# Altium schematic symbol library RTC6705.SchLib: 18 symbols
Pins are listed as number, name and electrical type; pins without a type are passive.

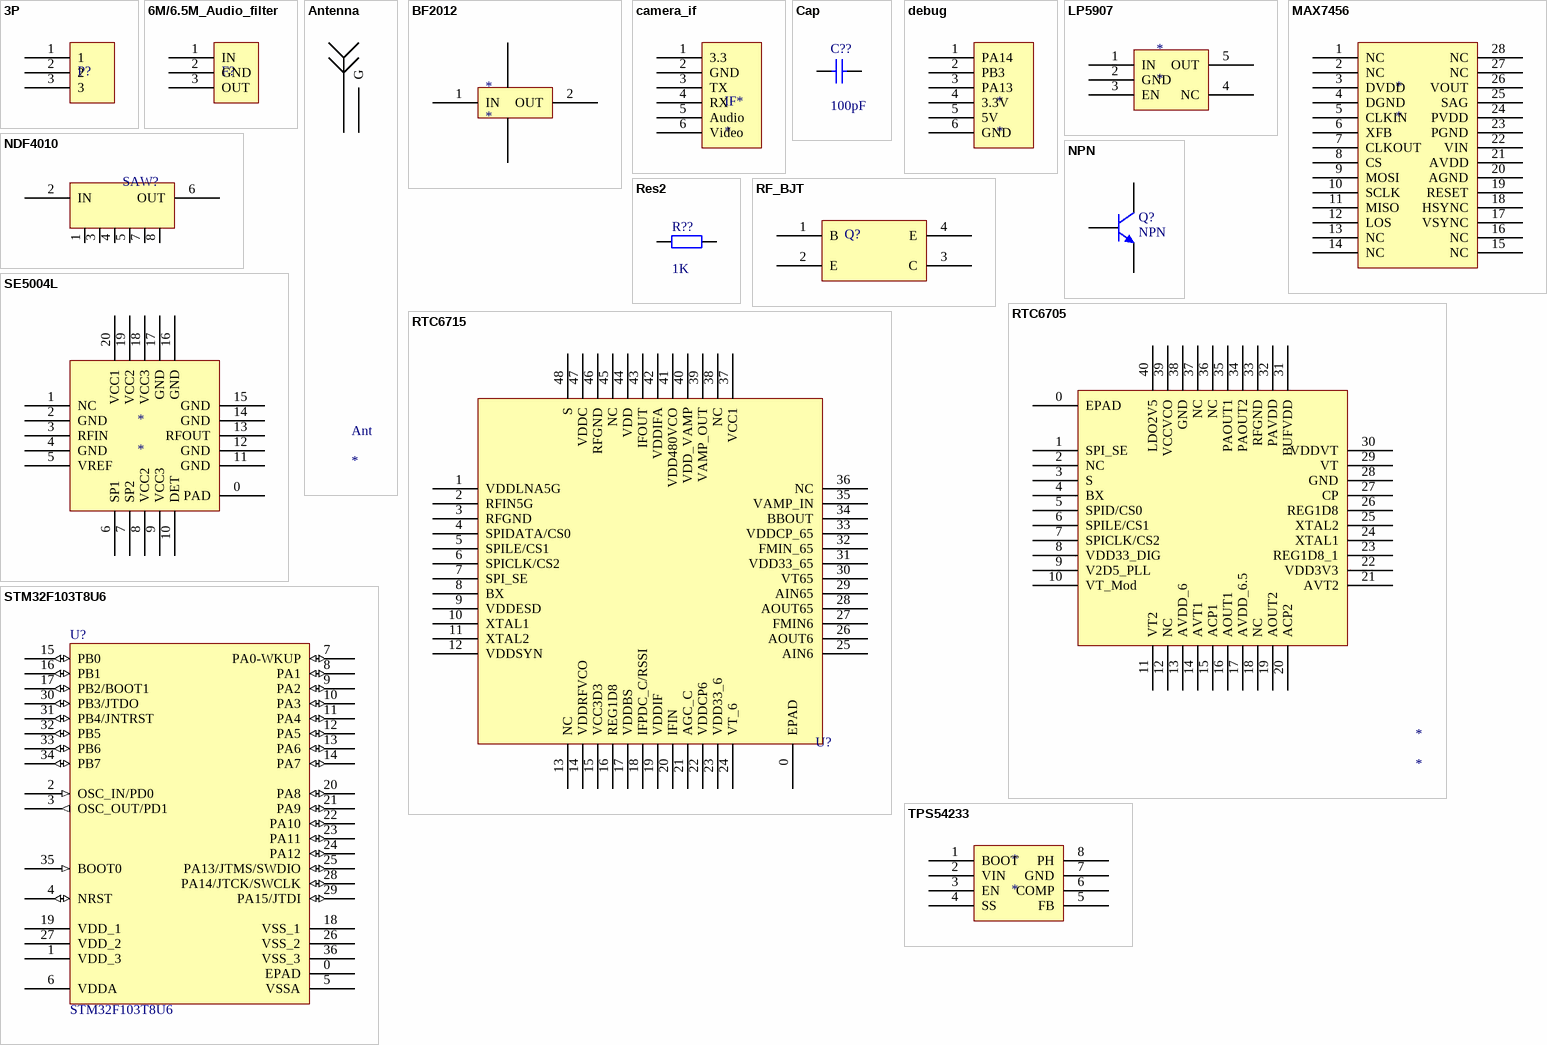
[diagram p0: symbols 3P to TPS54233]

## 3P
designator P?
footprint 3p
pins: 1, 2, 3

## 6M/6.5M_Audio_filter
designator F?
footprint 3p
pins: 1 IN, 2 GND, 3 OUT

## Antenna
designator Ant
footprint SMA
pins: 1, GND G

## BF2012
designator *
footprint BF2012
pins: 0 GND, 0 GND, 1 IN, 2 OUT

## camera_if
designator IF*
footprint WFRSM125
pins: 1 3.3, 2 GND, 3 TX, 4 RX, 5 Audio, 6 Video

## Cap
designator C??  value 100pF  (hidden comment: Cap)
Capacitor; Published: 8-Jun-2000; LatestRevisionDate: 17-Jul-2002; LatestRevisionNote: Re-released for DXP Platform.; PackageReference: RAD-0.3; Publisher: Altium Limited; PackageDescription: Radial Cap, Thru-Hole; 2 Leads; 0.3 in Pin Spacing
footprint 0603
simulation model CAP (Capacitor)
signal-integrity model Cap
footprint 0402 (0402-CAP)
pins: 1, 2

## debug
designator *
footprint WFRSM125
pins: 1 PA14, 2 PB3, 3 PA13, 4 3.3V, 5 5V, 6 GND

## LP5907
designator *
pins: 1 IN, 2 GND, 3 EN, 4 NC, 5 OUT

## MAX7456
designator *
footprint 28TSSOP
pins: 1 NC, 2 NC, 3 DVDD, 4 DGND, 5 CLKIN, 6 XFB, 7 CLKOUT, 8 CS, 9 MOSI, 10 SCLK, 11 MISO, 12 LOS, 13 NC, 14 NC, 15 NC, 16 NC, 17 VSYNC, 18 HSYNC, 19 RESET, 20 AGND, 21 AVDD, 22 VIN, 23 PGND, 24 PVDD, 25 SAG, 26 VOUT, 27 NC, 28 NC

## NDF4010
designator SAW?  (value not drawn)
footprint QCC-8
pins: 1 GND, 2 IN, 3 GND, 4 GND, 5 GND, 6 OUT, 7 GND, 8 GND

## NPN
designator Q?
NPN Bipolar Transistor; Published: 8-Jun-2000; LatestRevisionDate: 17-Jul-2002; LatestRevisionNote: Re-released for DXP Platform.; PackageReference: TO-226-AA; Publisher: Altium Limited; PackageDescription: TO, Flat Index; 3 In-Line, Axial Leads; Body Dia. 4.8mm; Leads 0.55 x 0.51 mm (max); Code_JEDEC: TO-226-AA
simulation model NPN
signal-integrity model NPN
footprint SOT23
footprint NESG3031M05
pins: 1 B, 2 E, 3 C

## Res2
designator R??  value 1K  (hidden comment: Res2)
Resistor; Published: 8-Jun-2000; LatestRevisionDate: 17-Jul-2002; LatestRevisionNote: Re-released for DXP Platform.; PackageReference: AXIAL-0.4; Publisher: Altium Limited; PackageDescription: Axial Device, Thru-Hole; 2 Leads; 0.4 in Pin Spacing
simulation model RESISTOR (Resistor)
signal-integrity model Res
footprint 0603
footprint 0402 (0402-CAP)
pins: 1, 2

## RF_BJT
designator Q?  (value not drawn)
footprint SOT343-4(RF)
pins: 1 B, 2 E, 3 C, 4 E

## RTC6705
designator *
footprint RTC6705
pins: 0 EPAD, 1 SPI_SE, 2 NC, 3 S, 4 BX, 5 SPID/CS0, 6 SPILE/CS1, 7 SPICLK/CS2, 8 VDD33_DIG, 9 V2D5_PLL, 10 VT_Mod, 11 VT2, 12 NC, 13 AVDD_6, 14 AVT1, 15 ACP1, 16 AOUT1, 17 AVDD_6.5, 18 NC, 19 AOUT2, 20 ACP2, 21 AVT2, 22 VDD3V3, 23 REG1D8_1, 24 XTAL1, 25 XTAL2, 26 REG1D8, 27 CP, 28 GND, 29 VT, 30 VDDVT, 31 BUFVDD, 32 PAVDD, 33 RFGND, 34 PAOUT2, 35 PAOUT1, 36 NC, 37 NC, 38 GND, 39 VCCVCO, 40 LDO2V5

## RTC6715
designator U?  (value not drawn)
footprint RTC6715
pins: 0 EPAD, 1 VDDLNA5G, 2 RFIN5G, 3 RFGND, 4 SPIDATA/CS0, 5 SPILE/CS1, 6 SPICLK/CS2, 7 SPI_SE, 8 BX, 9 VDDESD, 10 XTAL1, 11 XTAL2, 12 VDDSYN, 13 NC, 14 VDDRFVCO, 15 VCC3D3, 16 REG1D8, 17 VDDBS, 18 IFPDC_C/RSSI, 19 VDDIF, 20 IFIN, 21 AGC_C, 22 VDDCP6, 23 VDD33_6, 24 VT_6, 25 AIN6, 26 AOUT6, 27 FMIN6, 28 AOUT65, 29 AIN65, 30 VT65, 31 VDD33_65, 32 FMIN_65, 33 VDDCP_65, 34 BBOUT, 35 VAMP_IN, 36 NC, 37 VCC1, 38 NC, 39 VAMP_OUT, 40 VDD_VAMP, 41 VDD480VCO, 42 VDDIFA, 43 IFOUT, 44 VDD, 45 NC, 46 RFGND, 47 VDDC, 48 S

## SE5004L
designator *
footprint SE5004L
pins: 0 PAD, 1 NC, 2 GND, 3 RFIN, 4 GND, 5 VREF, 6 SP1, 7 SP2, 8 VCC2, 9 VCC3, 10 DET, 11 GND, 12 GND, 13 RFOUT, 14 GND, 15 GND, 16 GND, 17 GND, 18 VCC3, 19 VCC2, 20 VCC1

## STM32F103T8U6
designator U?
STM32 ARM-based 32-bit MCU with 64 Kbytes Flash, 36-pin VFQFPN, Industrial Temperature; Published: *; DatasheetVersion: *; PackageVersion: *; PackageReference: *; Publisher: *; PackageDescription: *; ComponentLink1Description: *; ComponentLink1URL: *; ComponentLink2Description: *; ComponentLink2URL: *
footprint VFQN36_V
pins: 0 EPAD, 1 VDD_3 (power), 2 OSC_IN/PD0 (in), 3 OSC_OUT/PD1 (out), 4 NRST (io), 5 VSSA (power), 6 VDDA (power), 7 PA0-WKUP (io), 8 PA1 (io), 9 PA2 (io), 10 PA3 (io), 11 PA4 (io), 12 PA5 (io), 13 PA6 (io), 14 PA7 (io), 15 PB0 (io), 16 PB1 (io), 17 PB2/BOOT1 (io), 18 VSS_1 (power), 19 VDD_1 (power), 20 PA8 (io), 21 PA9 (io), 22 PA10 (io), 23 PA11 (io), 24 PA12 (io), 25 PA13/JTMS/SWDIO (io), 26 VSS_2 (power), 27 VDD_2 (power), 28 PA14/JTCK/SWCLK (io), 29 PA15/JTDI (io), 30 PB3/JTDO (io), 31 PB4/JNTRST (io), 32 PB5 (io), 33 PB6 (io), 34 PB7 (io), 35 BOOT0 (in), 36 VSS_3 (power)
2 alternate drawings of the same symbol

## TPS54233
designator *
footprint SO8 (8-Pin Small Outline Package 1.27 mm Pitch, IPC Medium Density)
pins: 1 BOOT, 2 VIN, 3 EN, 4 SS, 5 FB, 6 COMP, 7 GND, 8 PH